# EAGLE library part RESISTOR_NET_14 (library IIT_BOMBAY_Racing)
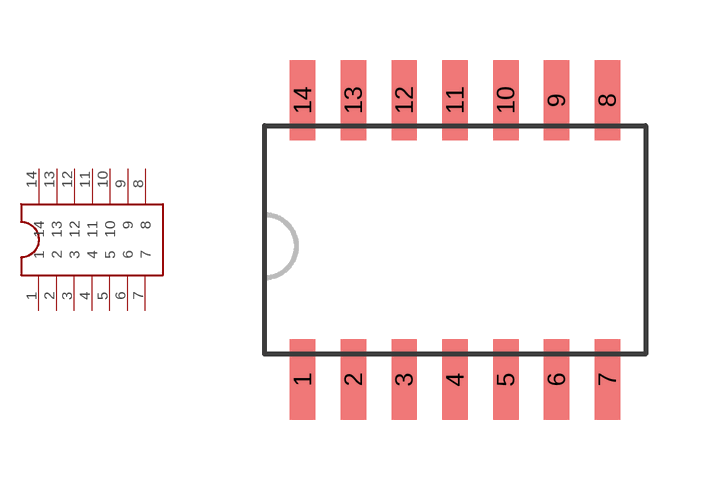
[diagram p14: symbol with the pads of RESISTOR_NET_14; footprint RESISTOR_NET_14]

Designator prefix -

## RESISTOR_NET_14  [RESISTOR_NET_14]
1  1
2  2
3  3
4  4
5  5
6  6
7  7
8  8
9  9
10  10
11  11
12  12
13  13
14  14

## Footprint RESISTOR_NET_14 (pad centres in mm)
smd 0.635 x 2.007: 1 -3.81,-3.493; 2 -2.54,-3.493; 3 -1.27,-3.493; 4 0,-3.493; 5 1.27,-3.493; 6 2.54,-3.493; 7 3.81,-3.493; 8 3.81,3.493; 9 2.54,3.493; 10 1.27,3.493; 11 0,3.493; 12 -1.27,3.493; 13 -2.54,3.493; 14 -3.81,3.493